# EAGLE library part 831-3608 (library con-wago_7.62mm)
Serie 831, Stiftleiste (für Leiterplatten) mit geraden Einlötstiften / Series 831, Male header (for PCBs) with straight solder pins Polzahl / Pole No.: 8 Bemessungsspannung / Rated Voltage: 630 V Nennstrom / Nominal Current: 41 A Lötstiftlänge: / Solder Pin Length: 4 mm Farbe / Color: lichtgrau / light gray Stand: 01.01.2012. Die jeweils aktuellen Daten zu diesem Artikel finden Sie in unserem Produktkatalog, den Sie unter www.wago.com einsehen können. As of: 01/01/2012. Please find the newest data for this article in our product catalogue, which can be viewed under www.wago.com.
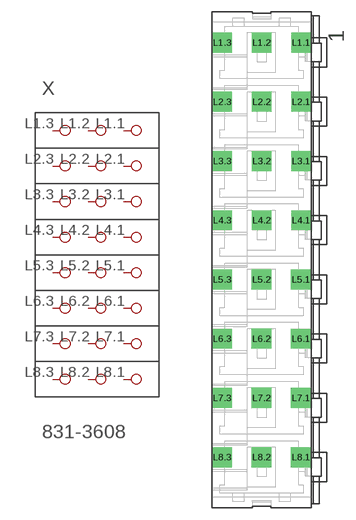
[diagram p6: symbol with the pads of P-831-3608; footprint P-831-3608]

Designator prefix X

## 831-3608  [P-831-3608]
L1.1  D
L1.2  SSS
L1.3  FDF
L2.1  X
L2.2  GGG
L2.3  SDF
L3.1  V
L3.2  C
L3.3  YYBB
L4.1  P4.1
L4.2  P4.2
L4.3  P4.3
L5.1  P5.1
L5.2  P5.2
L5.3  P5.3
L6.1  P6.1
L6.2  P6.2
L6.3  P6.3
L7.1  P7.1
L7.2  P7.2
L7.3  P7.3
L8.1  P8.1
L8.2  P8.2
L8.3  P8.3

## Footprint P-831-3608 (pad centres in mm)
drill 1.7 square: L1.1 4.08,27.94; L1.2 -1,27.94; L1.3 -6.08,27.94; L2.1 4.08,20.32; L2.2 -1,20.32; L2.3 -6.08,20.32; L3.1 4.08,12.7; L3.2 -1,12.7; L3.3 -6.08,12.7; L4.1 4.08,5.08; L4.2 -1,5.08; L4.3 -6.08,5.08; L5.1 4.07,-2.54; L5.2 -1.01,-2.54; L5.3 -6.09,-2.54; L6.1 4.07,-10.16; L6.2 -1.01,-10.16; L6.3 -6.09,-10.16; L7.1 4.07,-17.78; L7.2 -1.01,-17.78; L7.3 -6.09,-17.78; L8.1 4.07,-25.4; L8.2 -1.01,-25.4; L8.3 -6.09,-25.4